# EAGLE library part ARDUINO_NANO_V3_091_OLED (library Arduino_Nano_V3_22.86mm_OLED_ICSP)
Arduino NANO V3 with 0.91 OLED display. ICSP pins direct connection pads to PCB. Pin spacing in row is standard 0.10 inch and width between rows is 0.90in which fits standard 1/10th inch protoboard spacing.
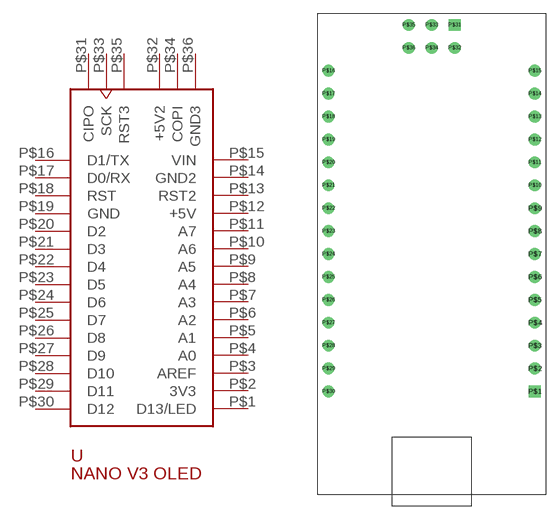
[diagram p0: symbol with the pads of ARDUINO_NANO_V3_091_OLED; footprint ARDUINO_NANO_V3_091_OLED]

Designator prefix -

## ARDUINO_NANO_V3_091_OLEDARDUINO_NANO_OLED_ICSP  [ARDUINO_NANO_V3_091_OLED]
P$1  D13/LED
P$2  3V3  pwr
P$3  AREF
P$4  A0
P$5  A1
P$6  A2
P$7  A3
P$8  A4
P$9  A5
P$10  A6
P$11  A7
P$12  +5V  pwr
P$13  RST2
P$14  GND2  pwr
P$15  VIN
P$16  D1/TX
P$17  D0/RX
P$18  RST
P$19  GND  pwr
P$20  D2
P$21  D3
P$22  D4
P$23  D5
P$24  D6
P$25  D7
P$26  D8
P$27  D9
P$28  D10
P$29  D11
P$30  D12
P$31  CIPO  out
P$32  +5V2  pwr
P$33  SCK
P$34  COPI  in
P$35  RST3  in
P$36  GND3

## Footprint ARDUINO_NANO_V3_091_OLED (pad centres in mm)
Arduino NANO V3 with 0.91 OLED
drill 0.8 square: P$1 11.43,-16.51; P$31 2.54,24.13
drill 0.8: P$2 11.43,-13.97; P$3 11.43,-11.43; P$4 11.43,-8.89; P$5 11.43,-6.35; P$6 11.43,-3.81; P$7 11.43,-1.27; P$8 11.43,1.27; P$9 11.43,3.81; P$10 11.43,6.35; P$11 11.43,8.89; P$12 11.43,11.43; P$13 11.43,13.97; P$14 11.43,16.51; P$15 11.43,19.05; P$16 -11.43,19.05; P$17 -11.43,16.51; P$18 -11.43,13.97; P$19 -11.43,11.43; P$20 -11.43,8.89; P$21 -11.43,6.35; P$22 -11.43,3.81; P$23 -11.43,1.27; P$24 -11.43,-1.27; P$25 -11.43,-3.81; P$26 -11.43,-6.35; P$27 -11.43,-8.89; P$28 -11.43,-11.43; P$29 -11.43,-13.97; P$30 -11.43,-16.51; P$32 2.54,21.59; P$33 0,24.13; P$34 0,21.59; P$35 -2.54,24.13; P$36 -2.54,21.59